# Altium footprint library components.PcbLib: 10 footprints
Each footprint in its own frame and in the unit in brackets; x right, y up, seen from the top. Pads: shape width x height; smd on the part's side, far side on the other; paste and mask are expansions set on the pad; w line width, h text height; cw(c..) or ccw(c..) is an arc to the next point about the centre after c.
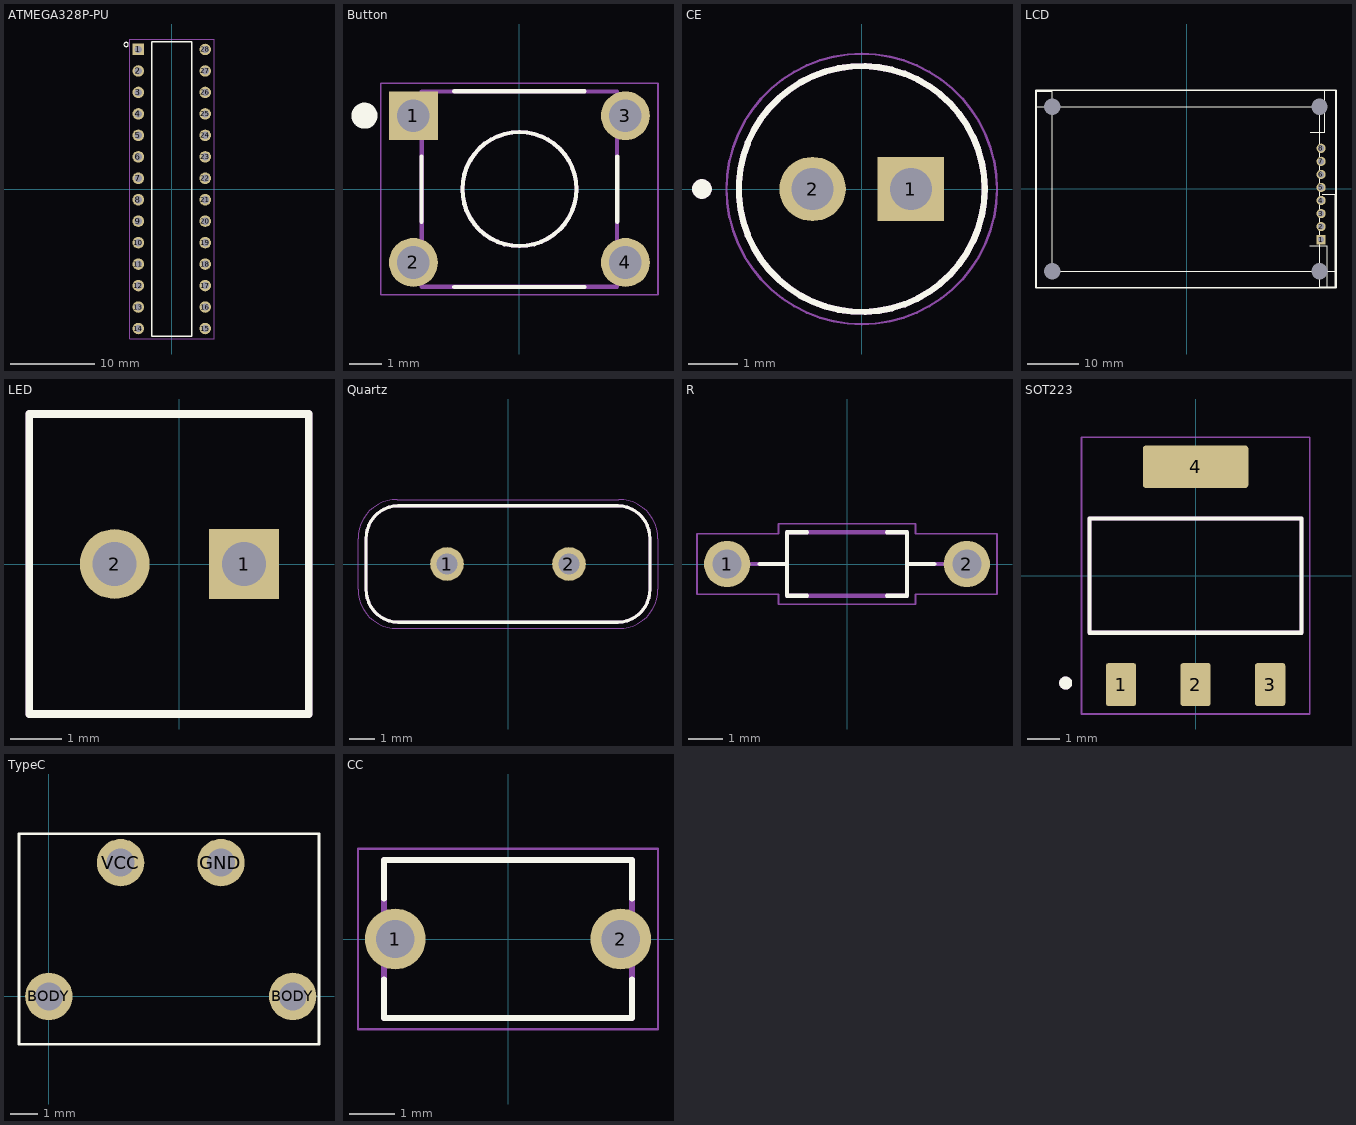
[diagram p0: the footprints below, top view; thin cyan lines are the x and y axes]

## ATMEGA328P-PU [mm]
pads (28):
  rect 1.358x1.358 hole 0.85 unplated: 1(-3.96,16.51)
  round 1.358 hole 0.85 unplated: 2(-3.96,13.97) 3(-3.96,11.43) 4(-3.96,8.89) 5(-3.96,6.35) 6(-3.96,3.81) 7(-3.96,1.27) 8(-3.96,-1.27) 9(-3.96,-3.81) 10(-3.96,-6.35) 11(-3.96,-8.89) 12(-3.96,-11.43) 13(-3.96,-13.97) 14(-3.96,-16.51) 15(3.96,-16.51) 16(3.96,-13.97) 17(3.96,-11.43) 18(3.96,-8.89) 19(3.96,-6.35) 20(3.96,-3.81) 21(3.96,-1.27) 22(3.96,1.27) 23(3.96,3.81) 24(3.96,6.35) 25(3.96,8.89) 26(3.96,11.43) 27(3.96,13.97) 28(3.96,16.51)
Top Overlay:
  circle w0: c-5.4,17.1 r0.254
  lines w0.152: -2.38,-17.4 2.38,-17.4 2.38,17.4 -2.38,17.4 -2.38,-17.4
Mechanical 15:
  lines w0.05: -5,-17.75 -5,17.75 5,17.75 5,-17.75 -5,-17.75
3D body "ATMEGA328P-PU--3DModel-STEP-56544.STEP": height 8.57, standoff 0.57, extent -3.95,-17.335 3.95,17.335
3D body "DIP28ass.STEP": height 4.39, standoff -2.89, extent -5.055,-17.725 5.105,17.835

## Button [mm]
pads (4):
  rect 1.5x1.5 hole 1 unplated: 1(-3.25,2.25)
  round 1.5 hole 1 unplated: 2(-3.25,-2.25) 3(3.25,2.25) 4(3.25,-2.25)
Top Overlay:
  circle w0.127: c0,0 r1.75
  circle w0.4: c-4.75,2.25 r0.2
  lines w0.127: -3,-1 -3,1 ; -2,-3 2,-3 ; -2,3 2,3 ; 3,-1 3,1
Mechanical 13:
  circle w0.127: c0,0 r1.75
  circle w0.4: c-3.25,2.25 r0.2
  lines w0.127: -2.995,-2.995 -2.995,2.995 2.995,2.995 2.995,-2.995 -2.995,-2.995
Mechanical 15:
  lines w0.05: -4.25,-3.245 4.25,-3.245 4.25,3.25 -4.25,3.25 -4.25,-3.245
3D body "step_temp.STEP": height 9.5, standoff -3.51, extent -3.95,-2.997 3.95,2.997

## CE [mm] "50v 1uF"
pads (2):
  rect 1.35x1.3 hole 0.85 unplated: 1(1,0)
  oval 1.35x1.3 hole 0.85 unplated: 2(-1,0)
Top Overlay:
  circle w0.127: c0,0 r2.5
  circle w0.2: c-3.25,0 r0.1
Mechanical 13:
  circle w0.127: c0,0 r2.5
  circle w0.2: c-3.25,0 r0.1
Mechanical 15:
  circle w0.05: c0,0 r2.75
3D body "step_temp.STEP": height 12, standoff -19, extent -2.5,-2.486 2.5,2.486

## LCD [mm]
pads (12):
  rect 1.8x1.8 hole 1.2 unplated paste-2539.97 mask+0.102: 1(26.175,-9.86)
  round 1.8 hole 1.2 unplated paste-2539.97 mask+0.102: 2(26.175,-7.32) 3(26.175,-4.78) 4(26.175,-2.24) 5(26.175,0.3) 6(26.175,2.84) 7(26.175,5.38) 8(26.175,7.92)
  round 1.3 hole 3.2 unplated paste-2539.97 mask+0.102: 9(25.864,-15.998) 10(-26.116,15.998) 11(-26.116,-15.998) 12(25.864,15.998)
Top Overlay:
  lines w0.001: -26.116,15.998 -29.116,15.998 -29.116,18.998 -26.116,18.998 -26.116,15.998 ; -26.116,15.998 -26.116,-15.998 25.864,-15.998 25.864,15.998 -26.116,15.998
  lines w0.01: 25.864,-19.001 25.864,-15.998 28.884,-15.998 28.884,-19.001 25.864,-19.001
  lines w0.1: 23.934,-11.011 27.374,-11.011 ; 24.074,10.999 26.884,10.999 26.884,18.999 ; 26.404,-1.009 28.884,-1.009 ; 27.374,-19.001 27.374,-11.001 ; 28.884,-19.001 28.884,-1.001
  lines w0.3: -29.303,-19.201 29.072,-19.201 29.072,19.199 -29.303,19.199 -29.303,-19.201
3D body "LCD_TFT_1.8_SPI_ST7735.step": height 7, standoff 0, extent -29.1,-19.025 28.9,18.975

## LED [mm]
pads (2):
  rect 1.35x1.35 hole 0.85 unplated paste-2539.97 mask+0.102: 1(1.25,0)
  round 1.35 hole 0.85 unplated paste-2539.97 mask+0.102: 2(-1.25,0)
Top Overlay:
  lines w0.15: -2.9,-2.9 -2.9,2.9 2.5,2.9 2.5,0 2.5,-2.9 -2.9,-2.9
Mechanical 15:
  lines w0.15: -2.9,-2.9 2.5,-2.9 2.5,2.9 -2.9,2.9 -2.9,-2.9
3D body "LED_5mm.STEP": height 9.6, standoff -25.4, extent -2.9,-2.897 2.5,2.897

## Quartz [mm]
pads (2):
  round 1.35 hole 0.85 unplated: 1(-2.44,0) 2(2.44,0)
Top Overlay:
  lines w0.127: -5.675,-1.012 ccw(c-4.38,-1.035) -4.403,-2.33 ; -5.675,-1.01 -5.675,1.01 ; -5.675,1.012 cw(c-4.38,1.035) -4.403,2.33 ; -4.405,-2.33 4.405,-2.33 ; -4.405,2.33 4.405,2.33 ; 4.403,-2.33 ccw(c4.38,-1.035) 5.675,-1.012 ; 4.403,2.33 cw(c4.38,1.035) 5.675,1.012 ; 5.675,-1.01 5.675,1.01
Mechanical 13:
  lines w0.127: -5.675,-1.012 ccw(c-4.38,-1.035) -4.403,-2.33 ; -5.675,-1.01 -5.675,1.01 ; -5.675,1.012 cw(c-4.38,1.035) -4.403,2.33 ; -4.405,-2.33 4.405,-2.33 ; -4.405,2.33 4.405,2.33 ; 4.403,-2.33 ccw(c4.38,-1.035) 5.675,-1.012 ; 4.403,2.33 cw(c4.38,1.035) 5.675,1.012 ; 5.675,-1.01 5.675,1.01
Mechanical 15:
  lines w0.05: -6,-1.01 ccw(c-4.43,-1.01) -4.43,-2.58 4.43,-2.58 ccw(c4.43,-1.01) 6,-1.01 6,1.01 ccw(c4.43,1.01) 4.43,2.58 -4.43,2.58 ccw(c-4.43,1.01) -6,1.01 -6,-1.01
3D body "step_temp.STEP": height 3.5, standoff -12.7, extent -5.675,-2.325 5.675,2.325

## R [mm]
pads (2):
  round 1.35 hole 0.85 unplated: 1(-3.5,0) 2(3.5,0)
Top Overlay:
  lines w0.127: -2.55,0 -1.75,0 ; -1.17,-0.925 -1.75,-0.925 -1.75,0 ; -1.17,0.925 -1.75,0.925 -1.75,0 ; 1.17,-0.925 1.75,-0.925 1.75,0 ; 1.17,0.925 1.75,0.925 1.75,0 ; 2.55,0 1.75,0
Mechanical 1:
  lines w0.127: -2.925,0 -1.75,0 ; 2.925,0 1.75,0 ; -1.75,0 -1.75,-0.925 1.75,-0.925 1.75,0 ; -1.75,0 -1.75,0.925 1.75,0.925 1.75,0
Mechanical 15:
  lines w0.05: -4.38,-0.88 -2,-0.88 -2,-1.175 2,-1.175 2,-0.88 4.38,-0.88 4.38,0.88 2,0.88 2,1.175 -2,1.175 -2,0.88 -4.38,0.88 -4.38,-0.88
3D body "step_temp.STEP": height 1.85, standoff -23.57, extent -3.725,-0.925 3.725,0.925

## SOT223 [mm]
height 1.8
pads (4):
  rrect15% 0.93x1.31 smd: 1(-2.29,-3.345) 2(0,-3.345) 3(2.29,-3.345)
  rrect15% 3.24x1.31 smd: 4(0,3.345)
Top Overlay:
  circle w0.2: c-3.99,-3.3 r0.1
  lines w0.127: -3.253,-1.753 3.253,-1.753 3.253,1.753 -3.253,1.753 -3.253,-1.753
Mechanical 13:
  circle w0.2: c-3.99,-3.3 r0.1
  lines w0.127: -3.253,-1.753 3.253,-1.753 3.253,1.753 -3.253,1.753 -3.253,-1.753
Mechanical 15:
  lines w0.05: -3.502,-4.25 3.502,-4.25 3.502,4.25 -3.502,4.25 -3.502,-4.25
3D body "step_temp.STEP": height 1.8, standoff 0, extent -3.251,-3.499 3.251,3.499

## TypeC [mm]
pads (4):
  round 1.7 hole 1 unplated: BODY(0,0) BODY(8.75,0) GND(6.175,4.8) VCC(2.575,4.8)
Top Overlay:
  lines w0.1: -1.071,-1.715 9.692,-1.715 9.692,5.837 -1.071,5.837 -1.071,-1.715
3D body "Type C.stp": height 3.1, standoff -1.5, extent -0.12,-1.5 8.83,4.93

## СC [mm]
pads (2):
  round 1.35 hole 0.85 unplated: 1(-2.5,0) 2(2.5,0)
Top Overlay:
  lines w0.127: -2.75,-0.895 -2.75,-1.75 2.75,-1.75 2.75,-0.895 ; -2.75,0.895 -2.75,1.75 2.75,1.75 2.75,0.895
Mechanical 13:
  lines w0.127: -2.75,-1.75 -2.75,1.75 2.75,1.75 2.75,-1.75 -2.75,-1.75
Mechanical 15:
  lines w0.05: -3.325,-2 -3.325,2 3.325,2 3.325,-2 -3.325,-2
3D body "Ceramic_cap.STEP": height 6, standoff -9, extent -2.75,-1.75 2.75,1.75